# Altium footprint library Discrete_Passive.PcbLib: 313 footprints (part 6 of 20)
Each footprint in its own frame and in the unit in brackets; x right, y up, seen from the top. Pads: shape width x height; smd on the part's side, far side on the other; paste and mask are expansions set on the pad; w line width, h text height; cw(c..) or ccw(c..) is an arc to the next point about the centre after c.
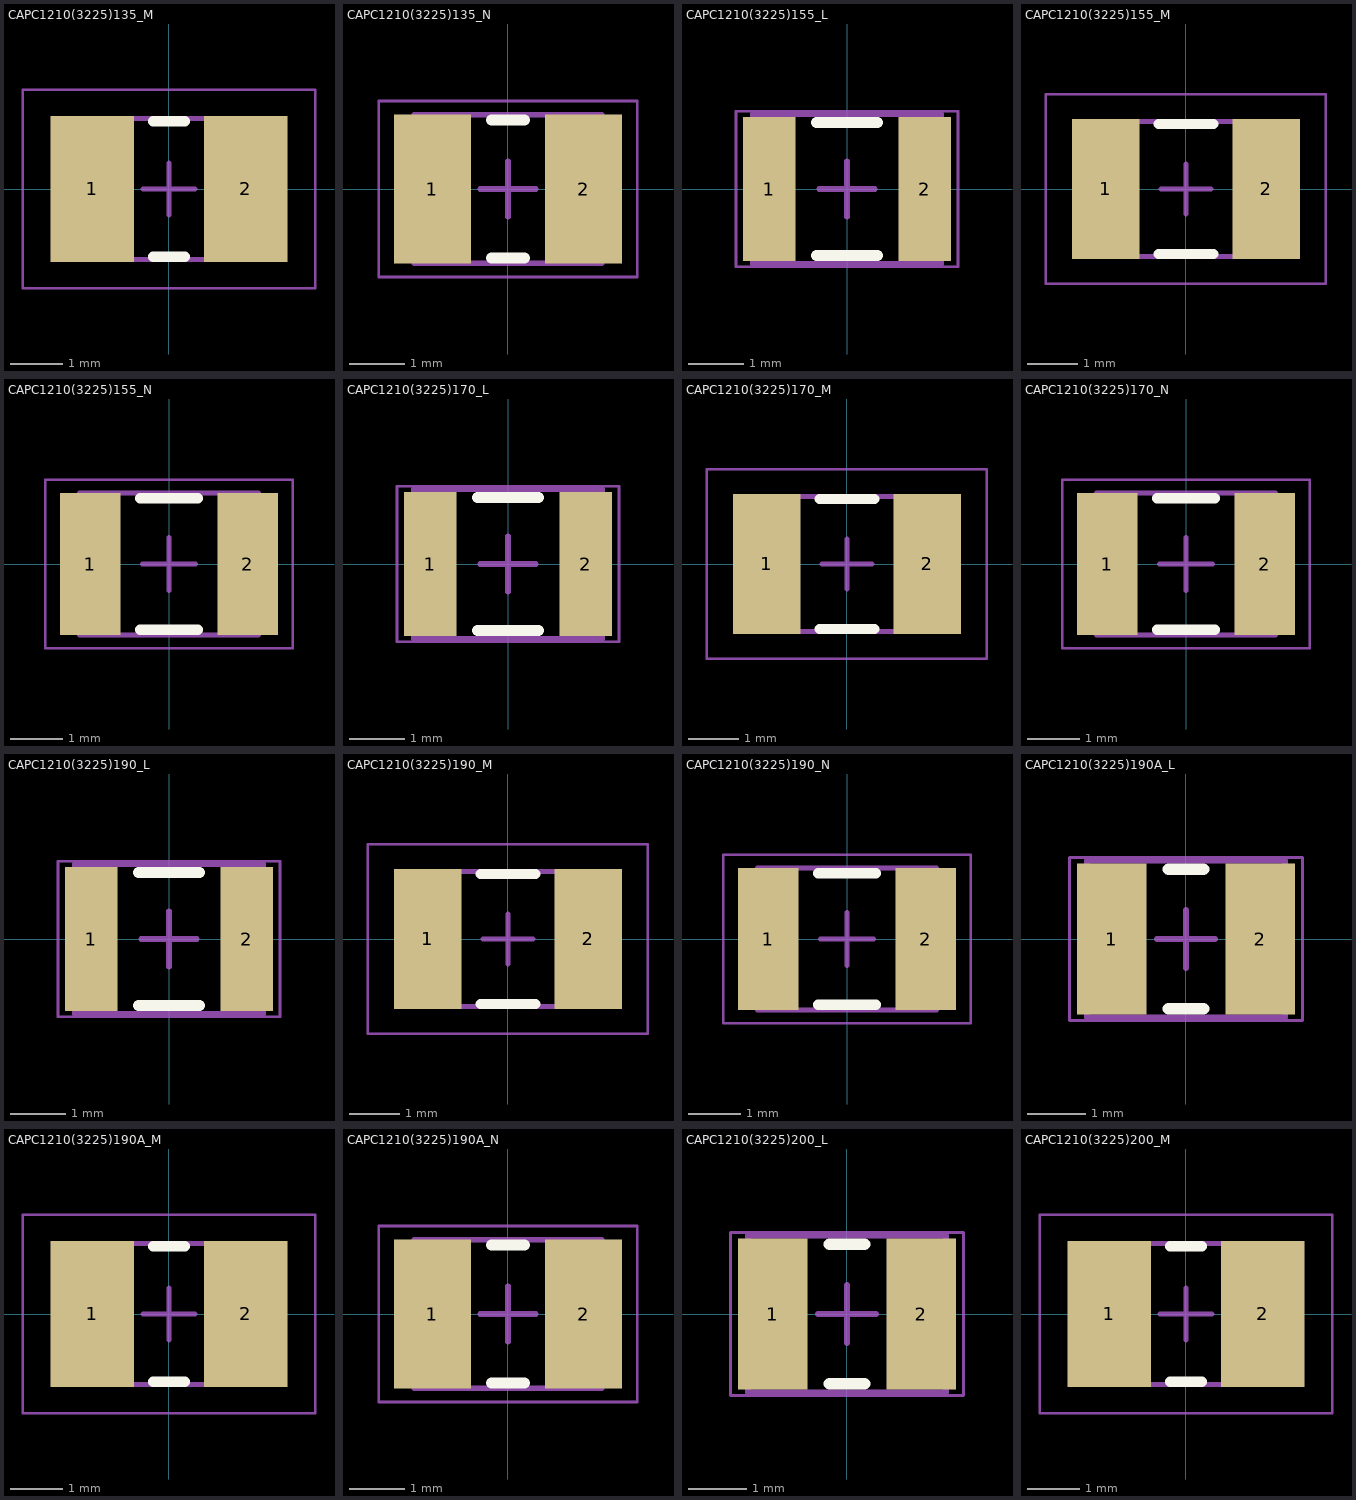
[diagram p5: the footprints below, top view; thin cyan lines are the x and y axes]

## CAPC1210(3225)135_M [mm] "Chip Capacitor, Body 3.2x2.5mm, Height 1.35mm, IPC Low Density"
height 1.35
pads (2):
  rect 1.6x2.8 smd: 1(-1.475,0) 2(1.475,0)
Top Overlay:
  lines w0.2: -0.3,-1.3 0.3,-1.3 ; -0.3,1.3 0.3,1.3
Mechanical 13:
  lines w0.1: -1.7,-1.35 1.7,-1.35 1.7,1.35 -1.7,1.35 -1.7,-1.35
Mechanical 15:
  lines w0.05: -2.8,-1.9 2.8,-1.9 2.8,1.9 -2.8,1.9 -2.8,-1.9
  lines w0.1: -0.5,0 0.5,0 ; 0,-0.5 0,0.5
3D body: height 1.35, standoff 0, extent 0.95,-1.35 1.7,1.35
3D body: height 1.35, standoff 0, extent -1.7,-1.35 -0.95,1.35
3D body: height 1.35, standoff 0, extent -0.95,-1.35 0.95,1.35

## CAPC1210(3225)135_N [mm] "Chip Capacitor, Body 3.2x2.5mm, Height 1.35mm, IPC Medium Density"
height 1.35
pads (2):
  rect 1.4x2.7 smd: 1(-1.375,0) 2(1.375,0)
Top Overlay:
  lines w0.2: -0.3,-1.25 0.3,-1.25 ; -0.3,1.25 0.3,1.25
Mechanical 13:
  lines w0.1: -1.7,-1.35 1.7,-1.35 1.7,1.35 -1.7,1.35 -1.7,-1.35
Mechanical 15:
  lines w0.05: -2.35,-1.6 2.35,-1.6 2.35,1.6 -2.35,1.6 -2.35,-1.6
  lines w0.1: -0.5,0 0.5,0 ; 0,-0.5 0,0.5
3D body: height 1.35, standoff 0, extent 0.95,-1.35 1.7,1.35
3D body: height 1.35, standoff 0, extent -1.7,-1.35 -0.95,1.35
3D body: height 1.35, standoff 0, extent -0.95,-1.35 0.95,1.35

## CAPC1210(3225)155_L [mm] "Chip Capacitor, Body 3.2x2.5mm, Height 1.55mm, IPC High Density"
height 1.55
pads (2):
  rect 0.95x2.6 smd: 1(-1.4,0) 2(1.4,0)
Top Overlay:
  lines w0.2: -0.55,-1.2 0.55,-1.2 ; -0.55,1.2 0.55,1.2
Mechanical 13:
  lines w0.1: -1.7,-1.35 1.7,-1.35 1.7,1.35 -1.7,1.35 -1.7,-1.35
Mechanical 15:
  lines w0.05: -2,-1.4 2,-1.4 2,1.4 -2,1.4 -2,-1.4
  lines w0.1: -0.5,0 0.5,0 ; 0,-0.5 0,0.5
3D body: height 1.55, standoff 0, extent 1.2,-1.35 1.7,1.35
3D body: height 1.55, standoff 0, extent -1.7,-1.35 -1.2,1.35
3D body: height 1.55, standoff 0, extent -1.2,-1.35 1.2,1.35

## CAPC1210(3225)155_M [mm] "Chip Capacitor, Body 3.2x2.5mm, Height 1.55mm, IPC Low Density"
height 1.55
pads (2):
  rect 1.35x2.8 smd: 1(-1.6,0) 2(1.6,0)
Top Overlay:
  lines w0.2: -0.55,-1.3 0.55,-1.3 ; -0.55,1.3 0.55,1.3
Mechanical 13:
  lines w0.1: -1.7,-1.35 1.7,-1.35 1.7,1.35 -1.7,1.35 -1.7,-1.35
Mechanical 15:
  lines w0.05: -2.8,-1.9 2.8,-1.9 2.8,1.9 -2.8,1.9 -2.8,-1.9
  lines w0.1: -0.5,0 0.5,0 ; 0,-0.5 0,0.5
3D body: height 1.55, standoff 0, extent 1.2,-1.35 1.7,1.35
3D body: height 1.55, standoff 0, extent -1.7,-1.35 -1.2,1.35
3D body: height 1.55, standoff 0, extent -1.2,-1.35 1.2,1.35

## CAPC1210(3225)155_N [mm] "Chip Capacitor, Body 3.2x2.5mm, Height 1.55mm, IPC Medium Density"
height 1.55
pads (2):
  rect 1.15x2.7 smd: 1(-1.5,0) 2(1.5,0)
Top Overlay:
  lines w0.2: -0.55,-1.25 0.55,-1.25 ; -0.55,1.25 0.55,1.25
Mechanical 13:
  lines w0.1: -1.7,-1.35 1.7,-1.35 1.7,1.35 -1.7,1.35 -1.7,-1.35
Mechanical 15:
  lines w0.05: -2.35,-1.6 2.35,-1.6 2.35,1.6 -2.35,1.6 -2.35,-1.6
  lines w0.1: -0.5,0 0.5,0 ; 0,-0.5 0,0.5
3D body: height 1.55, standoff 0, extent 1.2,-1.35 1.7,1.35
3D body: height 1.55, standoff 0, extent -1.7,-1.35 -1.2,1.35
3D body: height 1.55, standoff 0, extent -1.2,-1.35 1.2,1.35

## CAPC1210(3225)170_L [mm] "Chip Capacitor, Body 3.2x2.5mm, Height 1.7mm, IPC High Density"
height 1.7
pads (2):
  rect 0.95x2.6 smd: 1(-1.4,0) 2(1.4,0)
Top Overlay:
  lines w0.2: -0.55,-1.2 0.55,-1.2 ; -0.55,1.2 0.55,1.2
Mechanical 13:
  lines w0.1: -1.7,-1.35 1.7,-1.35 1.7,1.35 -1.7,1.35 -1.7,-1.35
Mechanical 15:
  lines w0.05: -2,-1.4 2,-1.4 2,1.4 -2,1.4 -2,-1.4
  lines w0.1: -0.5,0 0.5,0 ; 0,-0.5 0,0.5
3D body: height 1.7, standoff 0, extent 1.2,-1.35 1.7,1.35
3D body: height 1.7, standoff 0, extent -1.7,-1.35 -1.2,1.35
3D body: height 1.7, standoff 0, extent -1.2,-1.35 1.2,1.35

## CAPC1210(3225)170_M [mm] "Chip Capacitor, Body 3.2x2.5mm, Height 1.7mm, IPC Low Density"
height 1.7
pads (2):
  rect 1.35x2.8 smd: 1(-1.6,0) 2(1.6,0)
Top Overlay:
  lines w0.2: -0.55,-1.3 0.55,-1.3 ; -0.55,1.3 0.55,1.3
Mechanical 13:
  lines w0.1: -1.7,-1.35 1.7,-1.35 1.7,1.35 -1.7,1.35 -1.7,-1.35
Mechanical 15:
  lines w0.05: -2.8,-1.9 2.8,-1.9 2.8,1.9 -2.8,1.9 -2.8,-1.9
  lines w0.1: -0.5,0 0.5,0 ; 0,-0.5 0,0.5
3D body: height 1.7, standoff 0, extent 1.2,-1.35 1.7,1.35
3D body: height 1.7, standoff 0, extent -1.7,-1.35 -1.2,1.35
3D body: height 1.7, standoff 0, extent -1.2,-1.35 1.2,1.35

## CAPC1210(3225)170_N [mm] "Chip Capacitor, Body 3.2x2.5mm, Height 1.7mm, IPC Medium Density"
height 1.7
pads (2):
  rect 1.15x2.7 smd: 1(-1.5,0) 2(1.5,0)
Top Overlay:
  lines w0.2: -0.55,-1.25 0.55,-1.25 ; -0.55,1.25 0.55,1.25
Mechanical 13:
  lines w0.1: -1.7,-1.35 1.7,-1.35 1.7,1.35 -1.7,1.35 -1.7,-1.35
Mechanical 15:
  lines w0.05: -2.35,-1.6 2.35,-1.6 2.35,1.6 -2.35,1.6 -2.35,-1.6
  lines w0.1: -0.5,0 0.5,0 ; 0,-0.5 0,0.5
3D body: height 1.7, standoff 0, extent 1.2,-1.35 1.7,1.35
3D body: height 1.7, standoff 0, extent -1.7,-1.35 -1.2,1.35
3D body: height 1.7, standoff 0, extent -1.2,-1.35 1.2,1.35

## CAPC1210(3225)190_L [mm] "Chip Capacitor, Body 3.2x2.5mm, Height 1.9mm, IPC High Density"
height 1.9
pads (2):
  rect 0.95x2.6 smd: 1(-1.4,0) 2(1.4,0)
Top Overlay:
  lines w0.2: -0.55,-1.2 0.55,-1.2 ; -0.55,1.2 0.55,1.2
Mechanical 13:
  lines w0.1: -1.7,-1.35 1.7,-1.35 1.7,1.35 -1.7,1.35 -1.7,-1.35
Mechanical 15:
  lines w0.05: -2,-1.4 2,-1.4 2,1.4 -2,1.4 -2,-1.4
  lines w0.1: -0.5,0 0.5,0 ; 0,-0.5 0,0.5
3D body: height 1.9, standoff 0, extent 1.2,-1.35 1.7,1.35
3D body: height 1.9, standoff 0, extent -1.7,-1.35 -1.2,1.35
3D body: height 1.9, standoff 0, extent -1.2,-1.35 1.2,1.35

## CAPC1210(3225)190_M [mm] "Chip Capacitor, Body 3.2x2.5mm, Height 1.9mm, IPC Low Density"
height 1.9
pads (2):
  rect 1.35x2.8 smd: 1(-1.6,0) 2(1.6,0)
Top Overlay:
  lines w0.2: -0.55,-1.3 0.55,-1.3 ; -0.55,1.3 0.55,1.3
Mechanical 13:
  lines w0.1: -1.7,-1.35 1.7,-1.35 1.7,1.35 -1.7,1.35 -1.7,-1.35
Mechanical 15:
  lines w0.05: -2.8,-1.9 2.8,-1.9 2.8,1.9 -2.8,1.9 -2.8,-1.9
  lines w0.1: -0.5,0 0.5,0 ; 0,-0.5 0,0.5
3D body: height 1.9, standoff 0, extent 1.2,-1.35 1.7,1.35
3D body: height 1.9, standoff 0, extent -1.7,-1.35 -1.2,1.35
3D body: height 1.9, standoff 0, extent -1.2,-1.35 1.2,1.35

## CAPC1210(3225)190_N [mm] "Chip Capacitor, Body 3.2x2.5mm, Height 1.9mm, IPC Medium Density"
height 1.9
pads (2):
  rect 1.15x2.7 smd: 1(-1.5,0) 2(1.5,0)
Top Overlay:
  lines w0.2: -0.55,-1.25 0.55,-1.25 ; -0.55,1.25 0.55,1.25
Mechanical 13:
  lines w0.1: -1.7,-1.35 1.7,-1.35 1.7,1.35 -1.7,1.35 -1.7,-1.35
Mechanical 15:
  lines w0.05: -2.35,-1.6 2.35,-1.6 2.35,1.6 -2.35,1.6 -2.35,-1.6
  lines w0.1: -0.5,0 0.5,0 ; 0,-0.5 0,0.5
3D body: height 1.9, standoff 0, extent 1.2,-1.35 1.7,1.35
3D body: height 1.9, standoff 0, extent -1.7,-1.35 -1.2,1.35
3D body: height 1.9, standoff 0, extent -1.2,-1.35 1.2,1.35

## CAPC1210(3225)190A_L [mm] "Chip Capacitor, Body 3.2x2.5mm, Height 1.9mm, IPC High Density"
height 1.9
pads (2):
  rect 1.2x2.6 smd: 1(-1.275,0) 2(1.275,0)
Top Overlay:
  lines w0.2: -0.3,-1.2 0.3,-1.2 ; -0.3,1.2 0.3,1.2
Mechanical 13:
  lines w0.1: -1.7,-1.35 1.7,-1.35 1.7,1.35 -1.7,1.35 -1.7,-1.35
Mechanical 15:
  lines w0.05: -2,-1.4 2,-1.4 2,1.4 -2,1.4 -2,-1.4
  lines w0.1: -0.5,0 0.5,0 ; 0,-0.5 0,0.5
3D body: height 1.9, standoff 0, extent 0.95,-1.35 1.7,1.35
3D body: height 1.9, standoff 0, extent -1.7,-1.35 -0.95,1.35
3D body: height 1.9, standoff 0, extent -0.95,-1.35 0.95,1.35

## CAPC1210(3225)190A_M [mm] "Chip Capacitor, Body 3.2x2.5mm, Height 1.9mm, IPC Low Density"
height 1.9
pads (2):
  rect 1.6x2.8 smd: 1(-1.475,0) 2(1.475,0)
Top Overlay:
  lines w0.2: -0.3,-1.3 0.3,-1.3 ; -0.3,1.3 0.3,1.3
Mechanical 13:
  lines w0.1: -1.7,-1.35 1.7,-1.35 1.7,1.35 -1.7,1.35 -1.7,-1.35
Mechanical 15:
  lines w0.05: -2.8,-1.9 2.8,-1.9 2.8,1.9 -2.8,1.9 -2.8,-1.9
  lines w0.1: -0.5,0 0.5,0 ; 0,-0.5 0,0.5
3D body: height 1.9, standoff 0, extent 0.95,-1.35 1.7,1.35
3D body: height 1.9, standoff 0, extent -1.7,-1.35 -0.95,1.35
3D body: height 1.9, standoff 0, extent -0.95,-1.35 0.95,1.35

## CAPC1210(3225)190A_N [mm] "Chip Capacitor, Body 3.2x2.5mm, Height 1.9mm, IPC Medium Density"
height 1.9
pads (2):
  rect 1.4x2.7 smd: 1(-1.375,0) 2(1.375,0)
Top Overlay:
  lines w0.2: -0.3,-1.25 0.3,-1.25 ; -0.3,1.25 0.3,1.25
Mechanical 13:
  lines w0.1: -1.7,-1.35 1.7,-1.35 1.7,1.35 -1.7,1.35 -1.7,-1.35
Mechanical 15:
  lines w0.05: -2.35,-1.6 2.35,-1.6 2.35,1.6 -2.35,1.6 -2.35,-1.6
  lines w0.1: -0.5,0 0.5,0 ; 0,-0.5 0,0.5
3D body: height 1.9, standoff 0, extent 0.95,-1.35 1.7,1.35
3D body: height 1.9, standoff 0, extent -1.7,-1.35 -0.95,1.35
3D body: height 1.9, standoff 0, extent -0.95,-1.35 0.95,1.35

## CAPC1210(3225)200_L [mm] "Chip Capacitor, Body 3.2x2.5mm, Height 2mm, IPC High Density"
height 2
pads (2):
  rect 1.2x2.6 smd: 1(-1.275,0) 2(1.275,0)
Top Overlay:
  lines w0.2: -0.3,-1.2 0.3,-1.2 ; -0.3,1.2 0.3,1.2
Mechanical 13:
  lines w0.1: -1.7,-1.35 1.7,-1.35 1.7,1.35 -1.7,1.35 -1.7,-1.35
Mechanical 15:
  lines w0.05: -2,-1.4 2,-1.4 2,1.4 -2,1.4 -2,-1.4
  lines w0.1: -0.5,0 0.5,0 ; 0,-0.5 0,0.5
3D body: height 2, standoff 0, extent 0.95,-1.35 1.7,1.35
3D body: height 2, standoff 0, extent -1.7,-1.35 -0.95,1.35
3D body: height 2, standoff 0, extent -0.95,-1.35 0.95,1.35

## CAPC1210(3225)200_M [mm] "Chip Capacitor, Body 3.2x2.5mm, Height 2mm, IPC Low Density"
height 2
pads (2):
  rect 1.6x2.8 smd: 1(-1.475,0) 2(1.475,0)
Top Overlay:
  lines w0.2: -0.3,-1.3 0.3,-1.3 ; -0.3,1.3 0.3,1.3
Mechanical 13:
  lines w0.1: -1.7,-1.35 1.7,-1.35 1.7,1.35 -1.7,1.35 -1.7,-1.35
Mechanical 15:
  lines w0.05: -2.8,-1.9 2.8,-1.9 2.8,1.9 -2.8,1.9 -2.8,-1.9
  lines w0.1: -0.5,0 0.5,0 ; 0,-0.5 0,0.5
3D body: height 2, standoff 0, extent 0.95,-1.35 1.7,1.35
3D body: height 2, standoff 0, extent -1.7,-1.35 -0.95,1.35
3D body: height 2, standoff 0, extent -0.95,-1.35 0.95,1.35